# Altium footprint library UKLib_PCB.PcbLib: 40 footprints (part 1 of 3)
Each footprint in its own frame and in the unit in brackets; x right, y up, seen from the top. Pads: shape width x height; smd on the part's side, far side on the other; paste and mask are expansions set on the pad; w line width, h text height; cw(c..) or ccw(c..) is an arc to the next point about the centre after c.
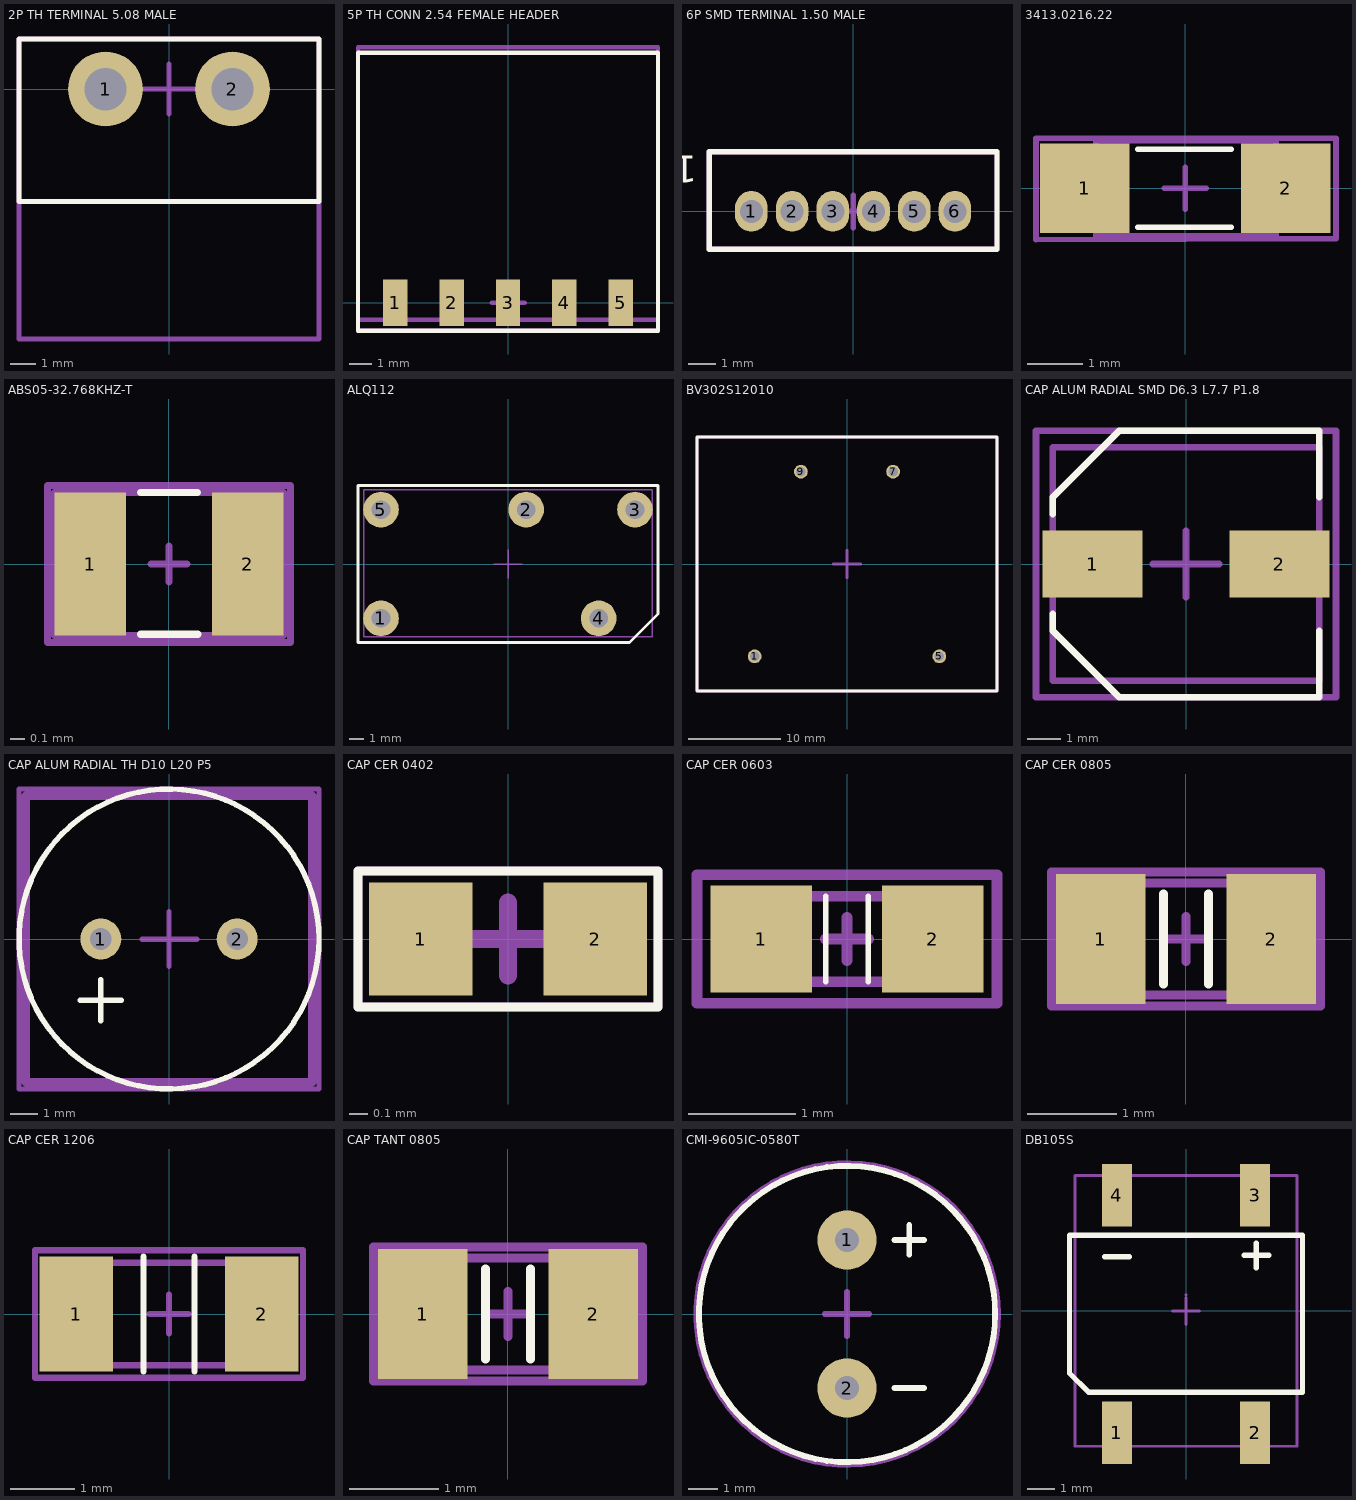
[diagram p0: the footprints below, top view; thin cyan lines are the x and y axes]

## 2P TH TERMINAL 5.08 MALE [mm]
pads (2):
  round 3 hole 1.7 mask+0.05: 1(-2.54,0) 2(2.54,0)
Top Overlay:
  lines w0.2: -6,-4.5 6,-4.5 6,2 -6,2 -6,-4.5
Top 3D Body:
  lines w0.2: -6,-10 6,-10 6,2 -6,2 -6,-10
Top Component Center:
  lines w0.2: -1,0 1,0 ; 0,-1 0,1 ; -6,-4.5 -6,2 6,2 6,-4.5 -6,-4.5
Top Designator:
  lines w0.2: -6,-4.5 -6,2 6,2 6,-4.5 -6,-4.5
  text ".Designator" at -4.746,-2.913 h1
3D body "CUI_DEVICES_TBP01R1-508-02BE.step": height 8.51, standoff -3.99, extent -5.935,-10.1 5.825,1.9

## 5P TH CONN 2.54 FEMALE HEADER [mm]
pads (5):
  rect 1.1x2.1 smd mask+0.05: 1(-5.08,0) 2(-2.54,0) 3(0,0) 4(2.54,0) 5(5.08,0)
Top Overlay:
  lines w0.2: -6.75,-1.25 6.75,-1.25 6.75,11.25 -6.75,11.25 -6.75,-1.25
Top 3D Body:
  lines w0.2: -6.75,-0.75 -6.75,11.5 6.75,11.5 6.75,-0.75 -6.75,-0.75
Top Component Center:
  lines w0.2: -0.741,-0.003 0.759,-0.003 ; 0,-0.75 0,0.75 ; -6.75,-1.25 -6.75,11.5 6.75,11.5 6.75,-1.25 -6.75,-1.25
Top Designator:
  lines w0.2: -6.75,-1.25 -6.75,11.5 6.75,11.5 6.75,-1.25 -6.75,-1.25
  text ".Designator" at -4.996,4.837 h1
3D body "SMH-105-02-L-S.stp": height 2.43, standoff 0.01, extent -6.604,-0.679 6.604,11.259

## 6P SMD TERMINAL 1.50 MALE [mm]
pads (6):
  oval 1.2x1.5 hole 0.85 mask+0.05: 1(-3.75,0) 2(-2.25,0) 3(-0.75,0) 4(0.75,0) 5(2.25,0) 6(3.75,0)
Top Overlay:
  lines w0.2: -5.3,-1.4 5.3,-1.4 5.3,2.2 -5.3,2.2 -5.3,-1.4
  text "1" at -5.754,2.046 h1
Top 3D Body:
  lines w0.2: -5.3,-1.4 5.3,-1.4 5.3,2.2 -5.3,2.2 -5.3,-1.4
Top Component Center:
  lines w0.2: -0.6,0 0.6,0 ; 0,-0.6 0,0.6 ; -5.3,-1.4 5.3,-1.4 5.3,2.2 -5.3,2.2 -5.3,-1.4
Top Designator:
  lines w0.2: -5.3,-1.4 5.3,-1.4 5.3,2.2 -5.3,2.2 -5.3,-1.4
  text ".Designator" at -5.046,0.987 h1
3D body "64800611622 (rev1).stp": height 4.51, standoff -2.69, extent -5.225,-1.35 5.275,2.15

## 3413.0216.22 [mm]
pads (2):
  rect 1.6x1.6 smd mask+0.05: 1(-1.8,0) 2(1.8,0)
Top Overlay:
  lines w0.1: -0.85,-0.7 0.825,-0.7 ; -0.85,0.7 0.825,0.7
Top 3D Body:
  lines w0.1: -1.6,-0.85 1.625,-0.85 1.625,0.85 -1.6,0.85 -1.6,-0.85
Top Component Center:
  lines w0.1: -0.375,0 0.375,0 ; 0,-0.375 0,0.375 ; -2.675,-0.925 2.7,-0.9 2.7,0.9 -2.675,0.9 -2.675,-0.925
Top Designator:
  lines w0.1: -2.675,-0.925 -2.675,0.9 2.7,0.9 2.7,-0.9 -2.675,-0.925
  text ".Designator" at -2.371,-0.613 h1.52
3D body "3413.0216.22.STEP": height 0.6, standoff 0, extent -1.6,-0.8 1.6,0.8

## ABS05-32.768KHZ-T [mm]
pads (2):
  rect 0.5x1 smd mask+0.05: 1(-0.55,0) 2(0.55,0)
Top Overlay:
  lines w0.05: -0.2,0.5 0.2,0.5 ; -0.198,-0.492 0.202,-0.492
Top 3D Body:
  lines w0.05: -0.8,-0.5 0.8,-0.5 0.8,0.5 -0.8,0.5 -0.8,-0.5
Top Component Center:
  lines w0.05: -0.125,0 0.125,0 ; 0,-0.125 0,0.125 ; -0.85,-0.55 0.85,-0.55 0.85,0.55 -0.85,0.55 -0.85,-0.55
Top Designator:
  lines w0.05: -0.85,-0.55 0.85,-0.55 0.85,0.55 -0.85,0.55 -0.85,-0.55
  text ".Designator" at -0.75,-0.283 h0.5
3D body "ABS05-32.768KHZ-T.STEP": height 0.52, standoff 0.01, extent -0.8,-0.5 0.8,0.5

## ALQ112 [mm]
pads (5):
  round 2.5 hole 1.3 mask+0.05: 1(-8.89,-3.81) 2(1.27,3.81) 3(8.89,3.81) 4(6.35,-3.81) 5(-8.89,3.81)
Top Overlay:
  lines w0.2: -10.5,-5.5 8.5,-5.5 10.5,-3.5 10.5,5.5 -10.5,5.5 -10.5,-5.5
Top 3D Body:
  lines w0.1: -10.1,-5.1 10.1,-5.1 10.1,5.2 -10.1,5.2 -10.1,5 -10.1,-5.1
Top Component Center:
  lines w0.1: -1,0 1,0 ; 0,-1 0,1 ; -10.1,-5.1 10.1,-5.1 10.1,5.2 -10.1,5.2 -10.1,5 -10.1,-5.1
Top Designator:
  lines w0.1: -10.1,-5.1 10.1,-5.1 10.1,5.2 -10.1,5.2 -10.1,5 -10.1,-5.1
  text ".Designator" at -7.746,-0.238 h1.52
3D body: height 15.6, standoff 0.4, extent 8,-4 9,-3
3D body: height 15.6, standoff 0.4, extent -10,-5 10,5
3D body: height 0.45, standoff -3.75, extent -9.29,3.41 -8.49,4.21
3D body: height 0.45, standoff -3.75, extent -9.29,-4.21 -8.49,-3.41
3D body: height 0.45, standoff -3.75, extent 8.49,3.41 9.29,4.21
3D body: height 0.45, standoff -3.75, extent 5.95,-4.21 6.75,-3.41
3D body: height 0.2, standoff -4, extent 0.87,3.66 1.67,3.96
3D body: height 0.2, standoff -4, extent 8.49,3.66 9.29,3.96
3D body: height 0.2, standoff -4, extent 5.95,-3.96 6.75,-3.66

## BV302S12010 [mm]
pads (4):
  round 1.5 hole 1 mask+0.05: 1(-10,-10) 5(10,-10) 7(5,10) 9(-5,10)
Top Overlay:
  lines w0.3: -16.25,-13.75 -16.25,13.75 16.25,13.75 16.25,-13.75 -16.25,-13.75
Top 3D Body:
  lines w0.3: -16.25,-13.75 -16.25,13.75 16.25,13.75 16.25,-13.75 -16.25,-13.75
Top Component Center:
  lines w0.3: -1.5,0 1.5,0 ; 0,-1.5 0,1.5 ; -16.25,-13.75 -16.25,13.75 16.25,13.75 16.25,-13.75 -16.25,-13.75
Top Designator:
  lines w0.3: -16.25,-13.75 16.25,-13.75 16.25,13.75 -16.25,13.75 -16.25,-13.75
  text ".Designator" at -7.996,-0.488 h1.52
3D body "BV302S12010.step": height 21.8, standoff -4.5, extent -16.25,-13.75 16.25,13.75

## CAP ALUM RADIAL SMD D6.3 L7.7 P1.8 [mm]
pads (2):
  rect 3x2 smd mask+0.05: 1(-2.8,0) 2(2.8,0)
Top Overlay:
  lines w0.2: -4,-1.5 -4,-2 -2,-4 4,-4 4,-2 ; -4,1.5 -4,2 -2,4 4,4 4,2
Top 3D Body:
  lines w0.2: -4,-3.5 4,-3.5 4,3.5 -4,3.5 -4,-3.5
Top Component Center:
  lines w0.2: -1,0 1,0 ; 0,-1 0,1 ; -4.5,-4 -4.5,4 4.5,4 4.5,-4 -4.5,-4
Top Designator:
  lines w0.2: -4.5,-4 4.5,-4 4.5,4 -4.5,4 -4.5,-4
  text ".Designator" at -4.246,-0.413 h1
3D body "EEV686M035A9HAA.step": height 8.02, standoff 0.01, extent -3.8,-3.4 3.8,3.4

## CAP ALUM RADIAL TH D10 L20 P5 [mm]
pads (2):
  round 1.5 hole 0.8 mask+0.05: 1(-2.5,0) 2(2.5,0)
Top Overlay:
  circle w0.2: c0,0 r5.5
  lines w0.2: -3.25,-2.25 -1.75,-2.25 ; -2.5,-3 -2.5,-1.5
Top 3D Body:
  lines w0.3: -5.25,-5.25 5.25,-5.25 5.25,5.25 -5.25,5.25 -5.25,-5.25
Top Component Center:
  lines w0.2: -0.976,-0.001 1.024,-0.001 ; 0,-1 0,1 ; -5.5,-5.5 5.5,-5.5 5.5,5.5 -5.5,5.5 -5.5,-5.5
Top Designator:
  lines w0.2: -5.5,-5.5 5.5,-5.5 5.5,5.5 -5.5,5.5 -5.5,-5.5
  text ".Designator" at -4.746,-0.738 h1.52
3D body "ESH477M050AH4AA.step": height 22.02, standoff -19.99, extent -5.25,-5.25 5.25,5.271

## CAP CER 0402 [mm]
pads (2):
  rect 0.57x0.62 smd mask+0.05: 1(-0.48,0) 2(0.48,0)
Top Overlay:
  lines w0.05: -0.825,-0.375 0.825,-0.375 0.825,0.375 -0.825,0.375 -0.825,-0.375
Top Component Center:
  lines w0.05: -0.825,-0.375 0.825,-0.375 0.825,0.375 -0.825,0.375 -0.825,-0.375
  lines w0.1: -0.2,0 0.2,0 ; 0,-0.2 0,0.2
Top Designator:
  lines w0.05: -0.825,-0.375 -0.825,0.375 0.825,0.375 0.825,-0.375 -0.825,-0.375
  text ".Designator" at -0.8,-0.233 h0.5
3D body "C0402.STEP": height 0.56, standoff 0.01, extent -0.5,-0.25 0.5,0.25

## CAP CER 0603 [mm]
pads (2):
  rect 0.95x1 smd mask+0.05: 1(-0.8,0) 2(0.8,0)
Top Overlay:
  lines w0.05: -0.2,-0.4 -0.2,0.4 ; 0.2,-0.4 0.2,0.4
Top 3D Body:
  lines w0.1: -0.8,-0.4 0.8,-0.4 0.8,0.4 -0.8,0.4 -0.8,-0.4
Top Component Center:
  lines w0.1: -0.2,0 0.2,0 ; 0,-0.2 0,0.2 ; -1.4,-0.6 -1.4,0.6 1.4,0.6 1.4,-0.6 -1.4,-0.6
Top Designator:
  lines w0.1: -1.4,-0.6 -1.4,0.6 1.4,0.6 1.4,-0.6 -1.4,-0.6
  text ".Designator" at -0.8,-0.233 h0.5
3D body "Ceramic_Capacitor_0603.step": height 0.81, standoff 0.01, extent -0.8,-0.4 0.8,0.4

## CAP CER 0805 [mm]
pads (2):
  rect 1x1.45 smd mask+0.05: 1(-0.95,0) 2(0.95,0)
Top Overlay:
  lines w0.1: -0.25,-0.5 -0.25,0.5 ; 0.25,-0.5 0.25,0.5
Top 3D Body:
  lines w0.1: -1.025,-0.625 1.025,-0.625 1.025,0.625 -1.025,0.625 -1.025,-0.625
Top Component Center:
  lines w0.1: -0.25,0 0.25,0 ; 0,-0.25 0,0.25 ; -1.5,-0.75 1.5,-0.75 1.5,0.75 -1.5,0.75 -1.5,-0.75
Top Designator:
  lines w0.1: -1.5,-0.75 -1.5,0.75 1.5,0.75 1.5,-0.75 -1.5,-0.75
  text ".Designator" at -1.4,-0.233 h0.5
3D body "CAP0805.STEP": height 1.35, standoff 0, extent -1,-0.625 1,0.625

## CAP CER 1206 [mm]
pads (2):
  rect 1.15x1.8 smd mask+0.05: 1(-1.45,0) 2(1.45,0)
Top Overlay:
  lines w0.1: -0.4,-0.9 -0.4,0.9 ; 0.4,-0.9 0.4,0.9
Top 3D Body:
  lines w0.1: -1.6,-0.8 1.6,-0.8 1.6,0.8 -1.6,0.8 -1.6,-0.8
Top Component Center:
  lines w0.1: -0.3,0 0.3,0 ; 0,-0.3 0,0.3 ; -2.1,-1 2.1,-1 2.1,1 -2.1,1 -2.1,-1
Top Designator:
  lines w0.1: -2.1,-1 -2.1,1 2.1,1 2.1,-1 -2.1,-1
  text ".Designator" at -1.8,-0.433 h0.5
3D body "cap_1206.STEP": height 1.8, standoff 0, extent -1.6,-0.8 1.6,0.8

## CAP TANT 0805 [mm]
pads (2):
  rect 1x1.45 smd mask+0.05: 1(-0.95,0) 2(0.95,0)
Top Overlay:
  lines w0.1: -0.25,-0.5 -0.25,0.5 ; 0.25,-0.5 0.25,0.5
Top 3D Body:
  lines w0.1: -1.025,-0.625 1.025,-0.625 1.025,0.625 -1.025,0.625 -1.025,-0.625
Top Component Center:
  lines w0.1: -0.25,0 0.25,0 ; 0,-0.25 0,0.25 ; -1.5,-0.75 1.5,-0.75 1.5,0.75 -1.5,0.75 -1.5,-0.75
Top Designator:
  lines w0.1: -1.5,-0.75 -1.5,0.75 1.5,0.75 1.5,-0.75 -1.5,-0.75
  text ".Designator" at -1.4,-0.233 h0.5
3D body "capTant0805.STEP": height 1.2, standoff 0, extent -1.025,-0.65 1.025,0.65

## CMI-9605IC-0580T [mm]
pads (2):
  round 2 hole 0.8 mask+0.05: 1(0,2.5) 2(0,-2.5)
Top Overlay:
  circle w0.2: c0,0 r5
  lines w0.2: 1.6,-2.5 2.6,-2.5 ; 1.6,2.5 2.6,2.5 ; 2.1,2 2.1,3
Top 3D Body:
  circle w0.254: c0,0 r5.062
Top Component Center:
  circle w0.254: c0,0 r5.062
  lines w0.2: -0.75,0 0.75,0 ; 0,-0.75 0,0.75
Top Designator:
  circle w0.254: c0,0 r5.062
  text ".Designator" at -4.246,-0.488 h1.52
3D body: height 0, standoff -4, extent -0.387,-2.822 0.213,-2.222
3D body: height 5.1, standoff 0.1, extent -4.6,-4.6 4.6,4.6
3D body: height 0, standoff -5.5, extent -0.387,2.178 0.213,2.778

## DB105S [mm]
pads (4):
  rect 1.1x2.3 smd mask+0.05: 1(-2.55,-4.5) 2(2.55,-4.5) 3(2.55,4.275) 4(-2.55,4.275)
Top Overlay:
  lines w0.2: -3,2 -2.1,2 ; 2.15,2.05 3.05,2.05 ; 2.6,1.6 2.6,2.5 ; -4.3,-2.3 -4.3,2.8 4.3,2.8 4.3,-3 -3.6,-3 -4.3,-2.3
Top 3D Body:
  lines w0.1: -4.1,-5 4.1,-5 4.1,5 -4.1,5 -4.1,-5
Top Component Center:
  lines w0.1: -0.5,0 0.5,0 ; 0,-0.5 0,0.5 ; 0,0.6 0.004,0.6 ; -4.1,-5 4.1,-5 4.1,5 -4.1,5 -4.1,-5
Top Designator:
  lines w0.1: -4.1,-5 4.1,-5 4.1,5 -4.1,5 -4.1,-5
  text ".Designator" at -3.446,-0.538 h1.52
3D body "DB101S.STEP": height 2.51, standoff -0.19, extent -4.075,-4.95 4.075,4.95